# EAGLE library part IFX740/44 (library pld-intel)
PLD
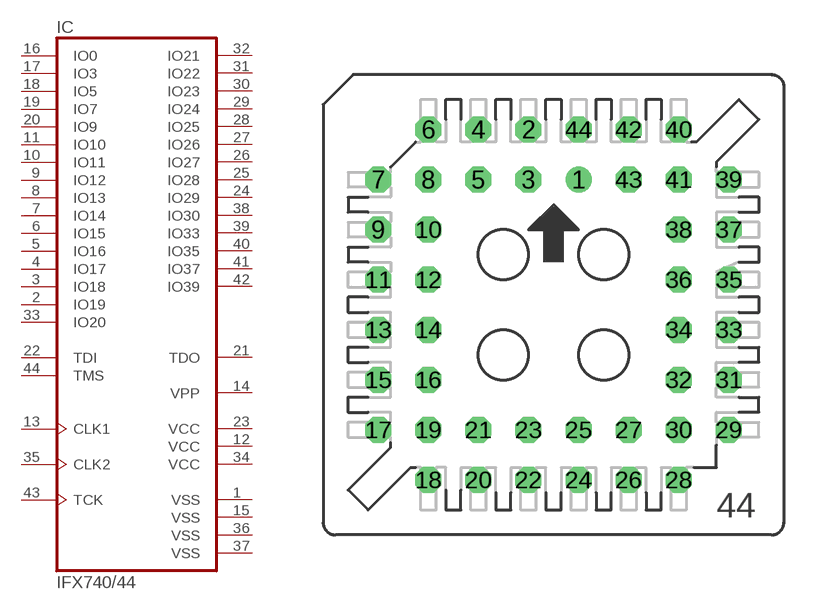
[diagram p1: symbol with the pads of S44; footprint S44]

Designator prefix IC

## IFX740/44 (OC_FARNELL: unknown; OC_NEWARK: unknown)  [S44]
1  VSS  pwr
2  IO19
3  IO18
4  IO17
5  IO16
6  IO15
7  IO14
8  IO13
9  IO12
10  IO11
11  IO10
12  VCC  pwr
13  CLK1  in
14  VPP  sup
15  VSS  pwr
16  IO0
17  IO3
18  IO5
19  IO7
20  IO9
21  TDO  out
22  TDI  in
23  VCC  pwr
24  IO29
25  IO28
26  IO27
27  IO26
28  IO25
29  IO24
30  IO23
31  IO22
32  IO21
33  IO20
34  VCC  pwr
35  CLK2  in
36  VSS  pwr
37  VSS  pwr
38  IO30
39  IO33
40  IO35
41  IO37
42  IO39
43  TCK  in
44  TMS  in

## Footprint S44 (pad centres in mm)
PLCC SOCKET
drill 0.813: 1 1.27,6.35
drill 0.813 octagon: 2 -1.27,8.89; 3 -1.27,6.35; 4 -3.81,8.89; 5 -3.81,6.35; 6 -6.35,8.89; 7 -8.89,6.35; 8 -6.35,6.35; 9 -8.89,3.81; 10 -6.35,3.81; 11 -8.89,1.27; 12 -6.35,1.27; 13 -8.89,-1.27; 14 -6.35,-1.27; 15 -8.89,-3.81; 16 -6.35,-3.81; 17 -8.89,-6.35; 18 -6.35,-8.89; 19 -6.35,-6.35; 20 -3.81,-8.89; 21 -3.81,-6.35; 22 -1.27,-8.89; 23 -1.27,-6.35; 24 1.27,-8.89; 25 1.27,-6.35; 26 3.81,-8.89; 27 3.81,-6.35; 28 6.35,-8.89; 29 8.89,-6.35; 30 6.35,-6.35; 31 8.89,-3.81; 32 6.35,-3.81; 33 8.89,-1.27; 34 6.35,-1.27; 35 8.89,1.27; 36 6.35,1.27; 37 8.89,3.81; 38 6.35,3.81; 39 8.89,6.35; 40 6.35,8.89; 41 6.35,6.35; 42 3.81,8.89; 43 3.81,6.35; 44 1.27,8.89